# Altium schematic symbol library MIC29302WU.SchLib: 1 symbol
Pins are listed as number, name and electrical type; pins without a type are passive.

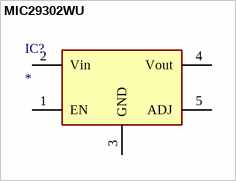
[diagram p0: symbol MIC29302WU]

## MIC29302WU
designator IC?
Integrated Circuit; Manufacturer_Name: Microchip; Manufacturer_Part_Number: MIC29302WU; Datasheet Link: https://www.mouser.com/datasheet/2/268/mic29150-779100.pdf; Height: 5.08mm; Mouser Part Number: N/A; Mouser Price/Stock: https://www.mouser.com/Search/Refine.aspx?Keyword=N%2FA
footprint MIC29302WU
pins: 1 EN, 2 Vin, 3 GND, 4 Vout, 5 ADJ